# Altium footprint library TLV74133PDBVR.PcbLib: 4 footprints
Each footprint in its own frame and in the unit in brackets; x right, y up, seen from the top. Pads: shape width x height; smd on the part's side, far side on the other; paste and mask are expansions set on the pad; w line width, h text height; cw(c..) or ccw(c..) is an arc to the next point about the centre after c.
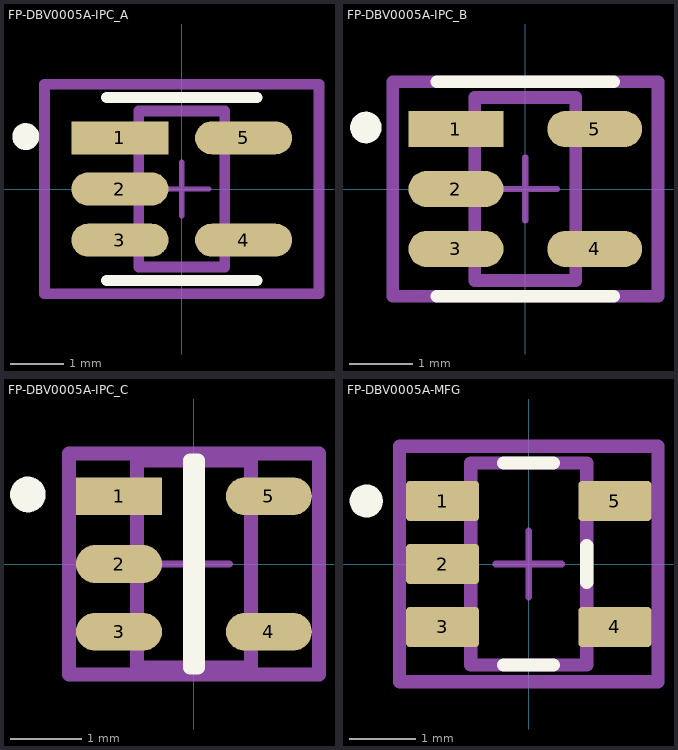
[diagram p0: the footprints below, top view; thin cyan lines are the x and y axes]

## FP-DBV0005A-IPC_A [mm]
pads (5):
  rect 1.805x0.612 smd paste+0 mask+0: 1(-1.15,0.95)
  rrect100% 1.805x0.612 smd paste+0 mask+0: 2(-1.15,0) 3(-1.15,-0.95) 4(1.15,-0.95) 5(1.15,0.95)
Top Overlay:
  circle w0.25: c-2.903,0.975 r0.125
  lines w0.2: -1.4,-1.7 1.4,-1.7 ; -1.4,1.7 1.4,1.7
Top Assembly:
  lines w0.2: -2.553,-1.95 -2.553,1.95 2.553,1.95 2.553,-1.95 -2.553,-1.95
  text ".Designator" at 0,-0.001 h1
Top 3D Body:
  lines w0.2: -0.8,-1.45 -0.8,1.45 0.8,1.45 0.8,-1.45 -0.8,-1.45
Top Courtyard:
  lines w0.2: -2.553,-1.95 -2.553,1.95 2.553,1.95 2.553,-1.95 -2.553,-1.95
Top Component Center:
  lines w0.1: -0.5,0 0.5,0 ; 0,-0.5 0,0.5
3D body "IC_Texas_Instruments_SN74AHC1G00DBVR_eec.STEP": height 0.25, standoff 0, extent -2.553,-1.95 2.553,1.95

## FP-DBV0005A-IPC_B [mm]
pads (5):
  rect 1.505x0.572 smd paste+0 mask+0: 1(-1.1,0.95)
  rrect100% 1.505x0.572 smd paste+0 mask+0: 2(-1.1,0) 3(-1.1,-0.95) 4(1.1,-0.95) 5(1.1,0.95)
Top Overlay:
  circle w0.25: c-2.528,0.975 r0.125
  lines w0.2: -1.4,-1.7 1.4,-1.7 ; -1.4,1.7 1.4,1.7
Top Assembly:
  lines w0.2: -2.103,-1.7 2.103,-1.7 2.103,1.7 -2.103,1.7 -2.103,-1.7
  text ".Designator" at 0,-0.001 h1
Top 3D Body:
  lines w0.2: -0.8,-1.45 0.8,-1.45 0.8,1.45 -0.8,1.45 -0.8,-1.45
Top Courtyard:
  lines w0.2: -2.103,-1.7 2.103,-1.7 2.103,1.7 -2.103,1.7 -2.103,-1.7
Top Component Center:
  lines w0.1: -0.5,0 0.5,0 ; 0,-0.5 0,0.5
3D body "IC_Texas_Instruments_SN74AHC1G00DBVR_eec.STEP": height 0.25, standoff 0, extent -2.103,-1.7 2.103,1.7

## FP-DBV0005A-IPC_C [mm]
pads (5):
  rect 1.205x0.532 smd paste+0 mask+0: 1(-1.05,0.95)
  rrect100% 1.205x0.532 smd paste+0 mask+0: 2(-1.05,0) 3(-1.05,-0.95) 4(1.05,-0.95) 5(1.05,0.95)
Top Overlay:
  circle w0.25: c-2.328,0.975 r0.125
  lines w0.2: -0.052,-1.45 -0.052,1.45 0.052,1.45 0.052,-1.45 -0.052,-1.45
Top Assembly:
  lines w0.2: -1.753,-1.55 1.753,-1.55 1.753,1.55 -1.753,1.55 -1.753,-1.55
  text ".Designator" at 0,0.188 h1
Top 3D Body:
  lines w0.2: -0.8,-1.45 0.8,-1.45 0.8,1.45 -0.8,1.45 -0.8,-1.45
Top Courtyard:
  lines w0.2: -1.753,-1.55 1.753,-1.55 1.753,1.55 -1.753,1.55 -1.753,-1.55
Top Component Center:
  lines w0.1: -0.5,0 0.5,0 ; 0,-0.5 0,0.5
3D body "IC_Texas_Instruments_SN74AHC1G00DBVR_eec.STEP": height 0.25, standoff 0, extent -1.753,-1.55 1.753,1.55

## FP-DBV0005A-MFG [mm]
pads (5):
  rrect17% 1.1x0.6 smd paste+0 mask+0: 1(-1.3,0.95) 2(-1.3,0) 3(-1.3,-0.95) 4(1.3,-0.95) 5(1.3,0.95)
Top Overlay:
  circle w0.25: c-2.45,0.95 r0.125
  lines w0.2: -0.375,-1.525 0.375,-1.525 ; -0.375,1.525 0.375,1.525 ; 0.875,-0.275 0.875,0.275
Top Assembly:
  lines w0.2: -1.95,-1.775 1.95,-1.775 1.95,1.775 -1.95,1.775 -1.95,-1.775
  text ".Designator" at 0,-0.001 h1
Top 3D Body:
  lines w0.2: -0.875,-1.525 0.875,-1.525 0.875,1.525 -0.875,1.525 -0.875,-1.525
Top Courtyard:
  lines w0.2: -1.95,-1.775 1.95,-1.775 1.95,1.775 -1.95,1.775 -1.95,-1.775
Top Component Center:
  lines w0.1: -0.5,0 0.5,0 ; 0,-0.5 0,0.5
3D body "IC_Texas_Instruments_SN65LVDT2DBVT_eec.STEP": height 0.25, standoff 0, extent -1.95,-1.775 1.95,1.775